# Altium schematic symbol library ATSAM.SchLib: 1 symbol
Pins are listed as number, name and electrical type; pins without a type are passive.

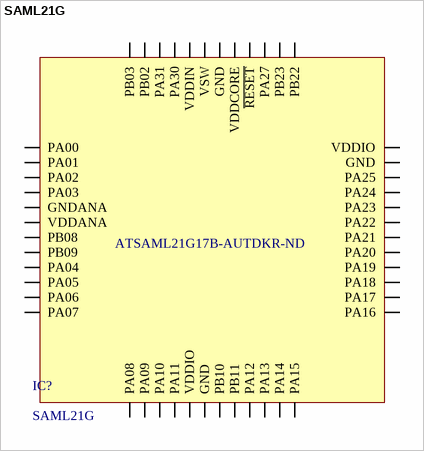
[diagram p0: symbol SAML21G]

## SAML21G
designator IC?  Supplier Part Number 1: ATSAML21G17B-AUTDKR-ND
Cortex-M0+ MCU; ComponentLink1Description: manufacturer; ComponentLink1URL: https://www.microchip.com/ATSAML21E18B; ComponentLink2Description: datasheet; ComponentLink2URL: http://ww1.microchip.com/downloads/en/DeviceDoc/60001477A.pdf; Supplier 1: Digi-Key
pins: 1 PA00, 2 PA01, 3 PA02, 4 PA03, 5 GNDANA, 6 VDDANA, 7 PB08, 8 PB09, 9 PA04, 10 PA05, 11 PA06, 12 PA07, 13 PA08, 14 PA09, 15 PA10, 16 PA11, 17 VDDIO, 18 GND, 19 PB10, 20 PB11, 21 PA12, 22 PA13, 23 PA14, 24 PA15, 25 PA16, 26 PA17, 27 PA18, 28 PA19, 29 PA20, 30 PA21, 31 PA22, 32 PA23, 33 PA24, 34 PA25, 35 GND, 36 VDDIO, 37 PB22, 38 PB23, 39 PA27, 40 ~{RESET}, 41 VDDCORE, 42 GND, 43 VSW, 44 VDDIN, 45 PA30, 46 PA31, 47 PB02, 48 PB03